# Altium integrated library FSM4JSMAATR.IntLib: 1 symbol
Pins are listed as number, name and electrical type; pins without a type are passive.

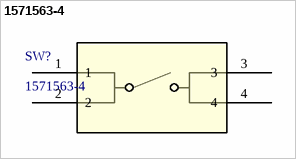
[diagram p0: symbol 1571563-4]

## 1571563-4
designator SW?
FSM4JSMAATR=TACTSWITCH,SMT,T&R; Manufacturer_Name: TE Connectivity; Copyright: Copyright (C) 2025 Ultra Librarian. All rights reserved.; Manufacturer_Part_Number: 1571563-4; RefDes: RefDes; Type: Type
footprint SW4_FSM-5P23_TEC
pins: 1, 2, 3, 4